# Altium schematic symbol library LQV103SYSV2.SCHLIB: 2 symbols
Pins are listed as number, name and electrical type; pins without a type are passive.

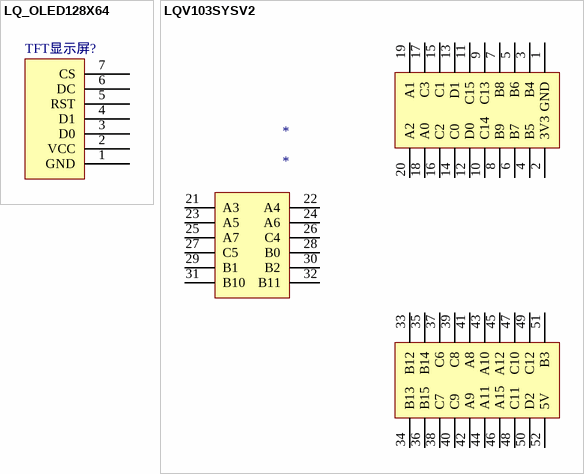
[diagram p0: symbols LQ_OLED128X64 to LQV103SYSV2]

## LQ_OLED128X64
designator TFT显示屏?, comment 单排座1*7-2.54  (value not drawn)
footprint LQ-TFT-180V33
pins: 1 GND, 2 VCC, 3 D0, 4 D1, 5 RST, 6 DC, 7 CS
2 alternate drawings of the same symbol

## LQV103SYSV2
designator *
footprint LQV103SYSV2
pins: 1 GND, 2 3V3, 3 B4, 4 B5, 5 B6, 6 B7, 7 B8, 8 B9, 9 C13, 10 C14, 11 C15, 12 D0, 13 D1, 14 C0, 15 C1, 16 C2, 17 C3, 18 A0, 19 A1, 20 A2, 21 A3, 22 A4, 23 A5, 24 A6, 25 A7, 26 C4, 27 C5, 28 B0, 29 B1, 30 B2, 31 B10, 32 B11, 33 B12, 34 B13, 35 B14, 36 B15, 37 C6, 38 C7, 39 C8, 40 C9, 41 A8, 42 A9, 43 A10, 44 A11, 45 A12, 46 A15, 47 C10, 48 C11, 49 C12, 50 D2, 51 B3, 52 5V